# EAGLE library part MCP3201 (library kvitekp)
MCP3201 Single 12bit SPI ADC with external VREF
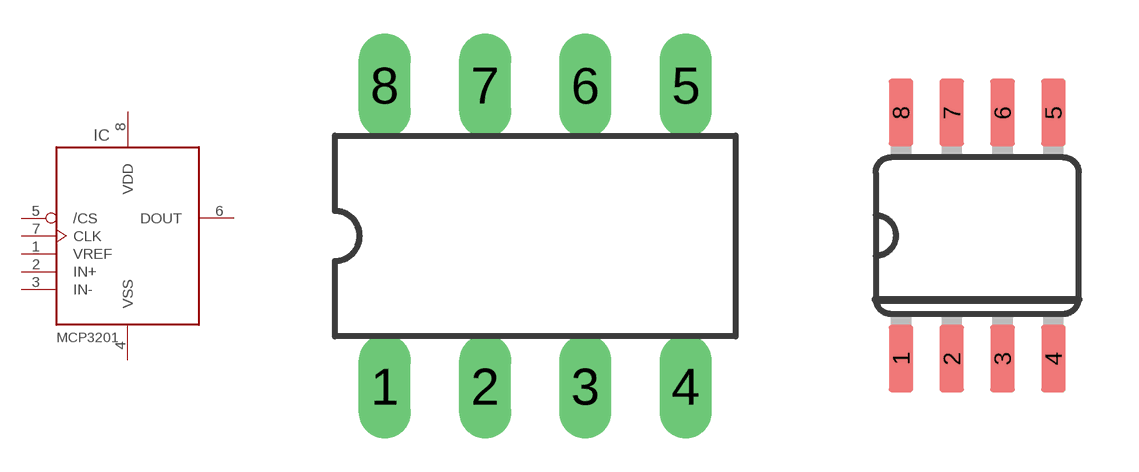
[diagram p15: symbol with the pads of DIL8; footprints DIL8, SO08]

Designator prefix IC

## MCP3201  [DIL8]
1  VREF  in
2  IN+  in
3  IN-  in
4  VSS  sup
5  /CS  in
6  DOUT  out
7  CLK  in
8  VDD  sup

## MCP3201SO08  [SO08]
Pads as for DIL8

## Footprint DIL8 (pad centres in mm)
Dual In Line package type P
drill 0.813 long: 1 -3.81,-3.81; 2 -1.27,-3.81; 3 1.27,-3.81; 4 3.81,-3.81; 5 3.81,3.81; 6 1.27,3.81; 7 -1.27,3.81; 8 -3.81,3.81

## Footprint SO08 (pad centres in mm)
smd 0.61 x 1.676: 1 -1.905,-3.073; 2 -0.635,-3.073; 3 0.635,-3.073; 4 1.905,-3.073; 5 1.905,3.073; 6 0.635,3.073; 7 -0.635,3.073; 8 -1.905,3.073